# EAGLE library part SPARK_CORE (library ExistingBoards)
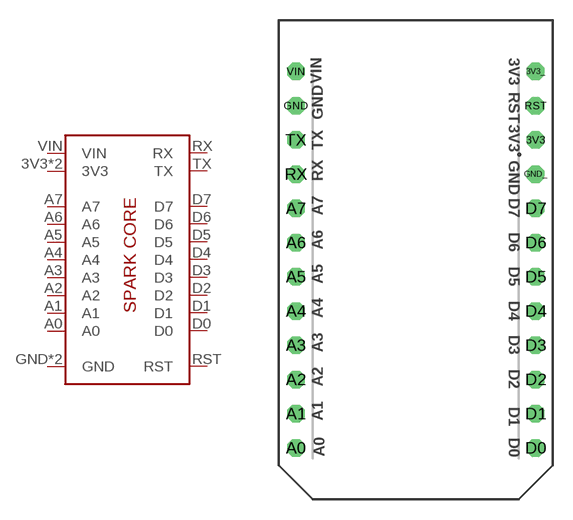
[diagram p0: symbol with the pads of SPARK_CORE; footprint SPARK_CORE]

Designator prefix -

## SPARK_CORE  [SPARK_CORE]
3V3  3V3
3V3_  3V3
A0  A0
A1  A1
A2  A2
A3  A3
A4  A4
A5  A5
A6  A6
A7  A7
D0  D0
D1  D1
D2  D2
D3  D3
D4  D4
D5  D5
D6  D6
D7  D7
GND  GND
GND_  GND
RST  RST
RX  RX
TX  TX
VIN  VIN  pwr

## Footprint SPARK_CORE (pad centres in mm)
drill 0.8 octagon: 3V3 17.78,22.86; 3V3_ 17.78,27.94; A0 0,0; A1 0,2.54; A2 0,5.08; A3 0,7.62; A4 0,10.16; A5 0,12.7; A6 0,15.24; A7 0,17.78; D0 17.78,0; D1 17.78,2.54; D2 17.78,5.08; D3 17.78,7.62; D4 17.78,10.16; D5 17.78,12.7; D6 17.78,15.24; D7 17.78,17.78; GND 0,25.4; GND_ 17.78,20.32; RST 17.78,25.4; RX 0,20.32; TX 0,22.86; VIN 0,27.94